# Altium integrated library ACS770KCB-150U-PFF-T.IntLib: 1 symbol
Pins are listed as number, name and electrical type; pins without a type are passive.

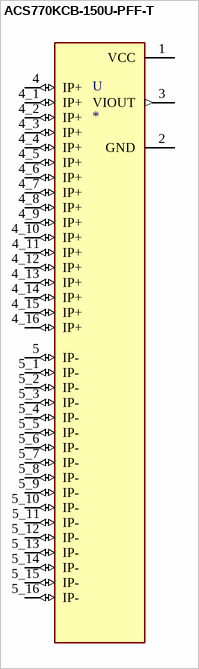
[diagram p0: symbol ACS770KCB-150U-PFF-T]

## ACS770KCB-150U-PFF-T
designator U
Current Sensor 150A 1 Channel Hall Effect, Open Loop Unidirectional 5-CB Formed Leads, PFF; MF: Allegro MicroSystems LLC; MP: ACS770KCB-150U-PFF-T; Value: *; Package: 5-CB-5 Allegro MicroSystems LLC; Price: None; Availability: Unavailable; SnapEDA_Link: https://www.snapeda.com/parts/ACS770KCB-150U-PFF-T/Allegro%20MicroSystems%20LLC/view-part/1754521/?ref=snap
footprint XDCR_ACS770KCB-150U-PFF-T
pins: 1 VCC (power), 2 GND (power), 3 VIOUT (out), 4 IP+ (io), 4_1 IP+ (io), 4_2 IP+ (io), 4_3 IP+ (io), 4_4 IP+ (io), 4_5 IP+ (io), 4_6 IP+ (io), 4_7 IP+ (io), 4_8 IP+ (io), 4_9 IP+ (io), 4_10 IP+ (io), 4_11 IP+ (io), 4_12 IP+ (io), 4_13 IP+ (io), 4_14 IP+ (io), 4_15 IP+ (io), 4_16 IP+ (io), 5 IP- (io), 5_1 IP- (io), 5_2 IP- (io), 5_3 IP- (io), 5_4 IP- (io), 5_5 IP- (io), 5_6 IP- (io), 5_7 IP- (io), 5_8 IP- (io), 5_9 IP- (io), 5_10 IP- (io), 5_11 IP- (io), 5_12 IP- (io), 5_13 IP- (io), 5_14 IP- (io), 5_15 IP- (io), 5_16 IP- (io)